# EAGLE library part A053-760M1 (library saw-filters-narrowband)
A053-760M1 Параметр Ед. изм. Мин. значение Тип. значение Макс. значение Центральная частота МГц 759.2 760 760.8 Минимальное вносимое затухание дБ 1.5 1.6 1.8 Полоса среза по уровню -2 дБ МГц 13 13.5 14 Полоса среза по уровню -30 дБ МГц 39 39.5 40 Неравномерность АЧХ дБ - 0.5 1 Групповое время задержки нс - - - Гарантированное затухание дБ - 50 - Температурный диапазон °C -55 22 +85 Материал подложки - - Танталат лития 36 -
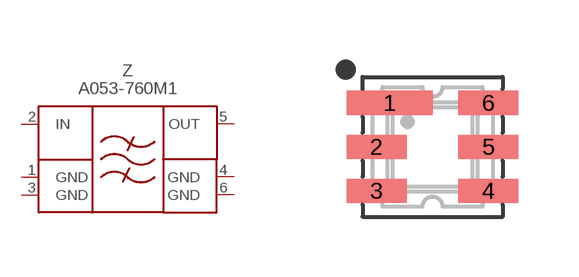
[diagram p142: symbol with the pads of DCC6; footprint DCC6]

Designator prefix Z

## A053-760M1  [DCC6]
1  GND  pwr
2  IN  in
3  GND  pwr
4  GND  pwr
5  OUT  out
6  GND  pwr

## Footprint DCC6 (pad centres in mm)
smd 2.15 x 0.6: 1 -1.075,1.1
smd 1.5 x 0.6: 2 -1.4,0; 3 -1.4,-1.1; 4 1.4,-1.1; 5 1.4,0; 6 1.4,1.1